# Altium footprint library MPU6050.PcbLib: 1 footprints
Each footprint in its own frame and in the unit in brackets; x right, y up, seen from the top. Pads: shape width x height; smd on the part's side, far side on the other; paste and mask are expansions set on the pad; w line width, h text height; cw(c..) or ccw(c..) is an arc to the next point about the centre after c.
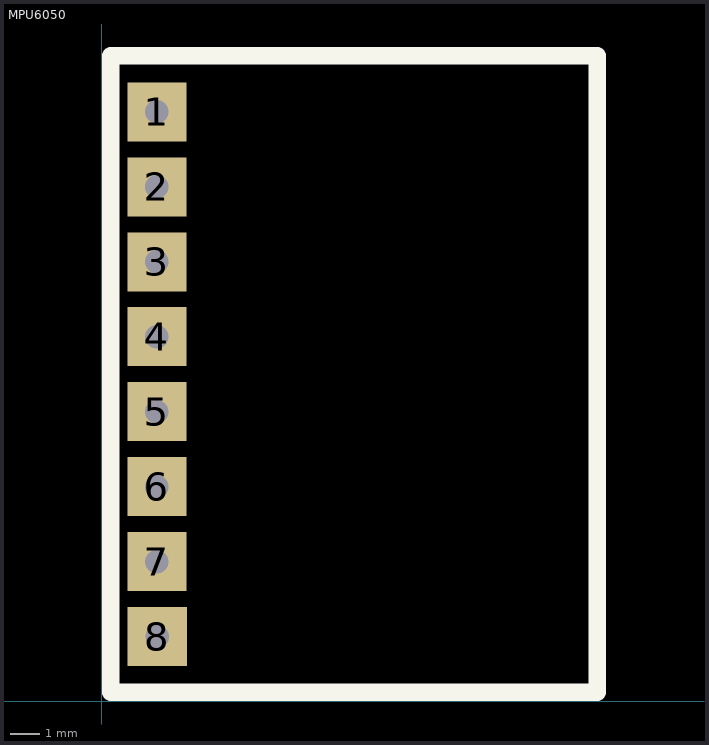
[diagram p0: the footprint, top view; thin cyan lines are the x and y axes]

## MPU6050 [mm]
pads (8):
  rect 2x2 hole 0.8: 1(1.863,19.97) 2(1.863,17.43) 3(1.863,14.89) 4(1.863,12.35) 5(1.863,9.81) 6(1.863,7.27) 7(1.863,4.73) 8(1.88,2.184)
Top Overlay:
  lines w0.6: 0.305,0.305 16.789,0.305 16.789,21.869 0.559,21.869 0.305,21.869 0.305,0.305
3D body "MPU 6050 IMU.STEP": height 8.94, standoff -2.23, extent 0.635,0.61 16.51,21.717